# EAGLE library part ATCXXXL3U (library ATCUxxxl3U_Synth)
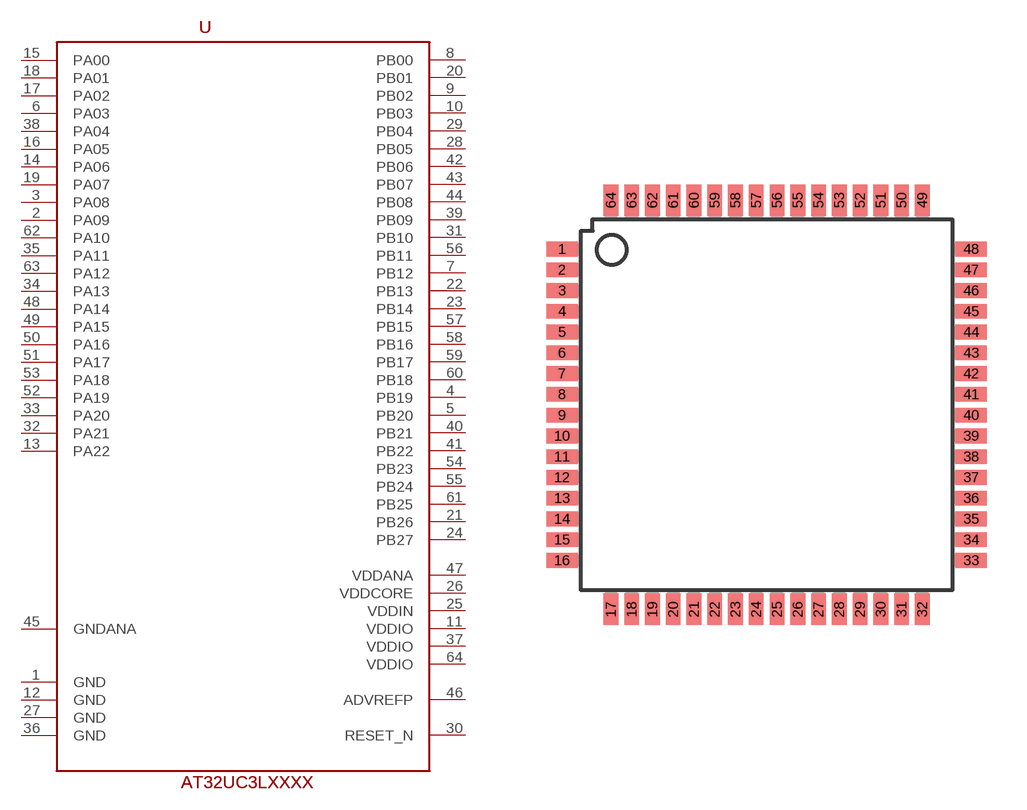
[diagram p0: symbol with the pads of TQFP64; footprint TQFP64]

Designator prefix -

## ATCXXXL3U  [TQFP64]
1  GND
2  PA09
3  PA08
4  PB19
5  PB20
6  PA03
7  PB12
8  PB00
9  PB02
10  PB03
11  VDDIO
12  GND
13  PA22
14  PA06
15  PA00
16  PA05
17  PA02
18  PA01
19  PA07
20  PB01
21  PB26
22  PB13
23  PB14
24  PB27
25  VDDIN
26  VDDCORE
27  GND
28  PB05
29  PB04
30  RESET_N
31  PB10
32  PA21
33  PA20
34  PA13
35  PA11
36  GND
37  VDDIO
38  PA04
39  PB09
40  PB21
41  PB22
42  PB06
43  PB07
44  PB08
45  GNDANA
46  ADVREFP
47  VDDANA
48  PA14
49  PA15
50  PA16
51  PA17
52  PA19
53  PA18
54  PB23
55  PB24
56  PB11
57  PB15
58  PB16
59  PB17
60  PB18
61  PB25
62  PA10
63  PA12
64  VDDIO

## Footprint TQFP64 (pad centres in mm)
Thin Plasic Quad Flat Package
smd 1.194 x 0.559: 1 -7.76,5.905; 2 -7.76,5.118; 3 -7.76,4.331; 4 -7.76,3.543; 5 -7.76,2.756; 6 -7.76,1.968; 7 -7.76,1.181; 8 -7.76,0.394; 9 -7.76,-0.394; 10 -7.76,-1.181; 11 -7.76,-1.968; 12 -7.76,-2.756; 13 -7.76,-3.543; 14 -7.76,-4.331; 15 -7.76,-5.118; 16 -7.76,-5.905; 33 7.76,-5.905; 34 7.76,-5.118; 35 7.76,-4.331; 36 7.76,-3.543; 37 7.76,-2.756; 38 7.76,-1.968; 39 7.76,-1.181; 40 7.76,-0.394; 41 7.76,0.394; 42 7.76,1.181; 43 7.76,1.968; 44 7.76,2.756; 45 7.76,3.543; 46 7.76,4.331; 47 7.76,5.118; 48 7.76,5.905
smd 0.559 x 1.194: 17 -5.905,-7.76; 18 -5.118,-7.76; 19 -4.331,-7.76; 20 -3.543,-7.76; 21 -2.756,-7.76; 22 -1.968,-7.76; 23 -1.181,-7.76; 24 -0.394,-7.76; 25 0.394,-7.76; 26 1.181,-7.76; 27 1.968,-7.76; 28 2.756,-7.76; 29 3.543,-7.76; 30 4.331,-7.76; 31 5.118,-7.76; 32 5.905,-7.76; 49 5.905,7.76; 50 5.118,7.76; 51 4.331,7.76; 52 3.543,7.76; 53 2.756,7.76; 54 1.968,7.76; 55 1.181,7.76; 56 0.394,7.76; 57 -0.394,7.76; 58 -1.181,7.76; 59 -1.968,7.76; 60 -2.756,7.76; 61 -3.543,7.76; 62 -4.331,7.76; 63 -5.118,7.76; 64 -5.905,7.76